# Altium integrated library Circuit_protection.IntLib: 54 symbols
Pins are listed as number, name and electrical type; pins without a type are passive.

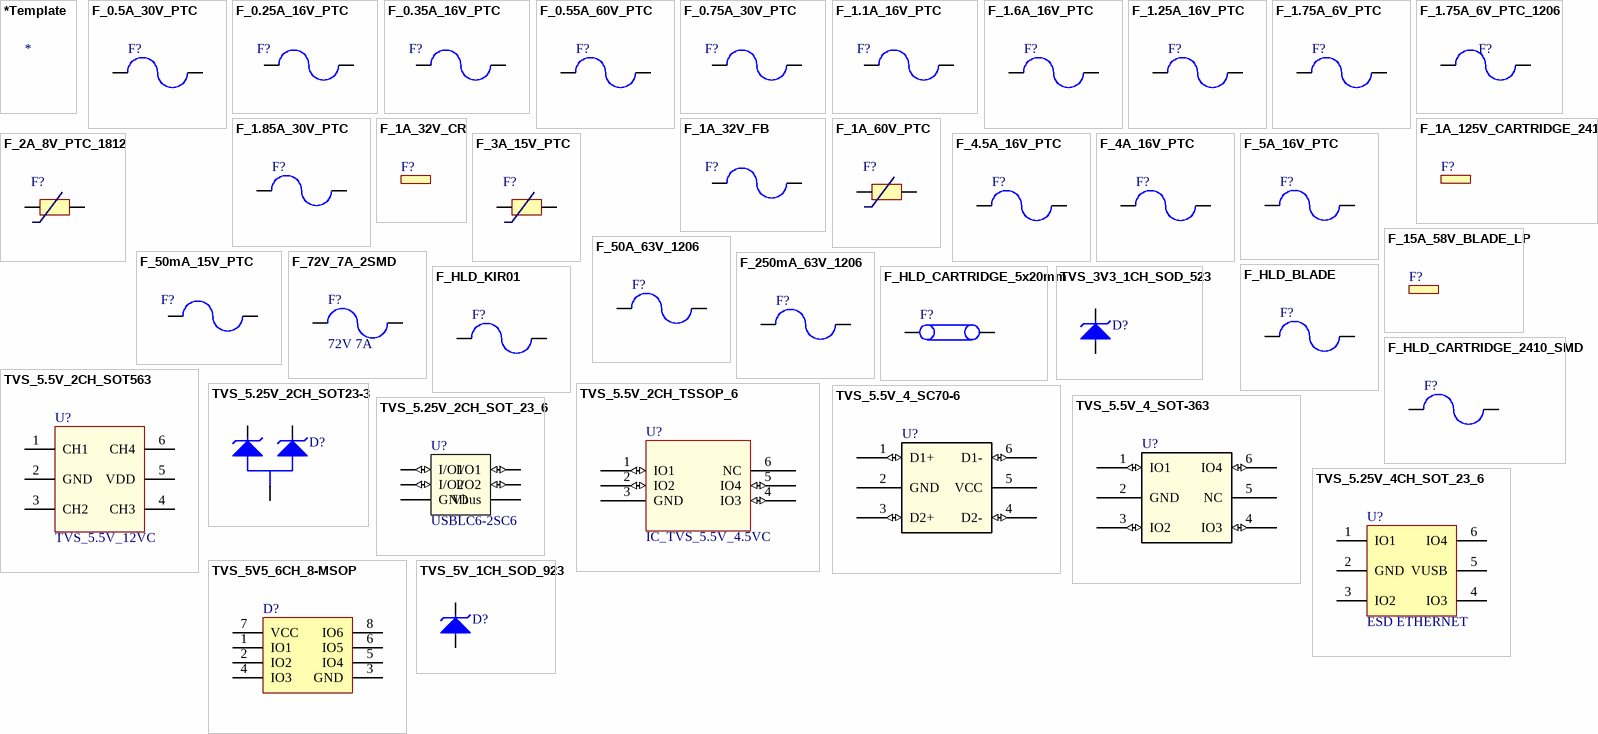
[diagram p0: symbols *Template to TVS_5V_1CH_SOD_923]

## *Template
designator *
Reel Sotck: N/A; Last modified by: J.Jaramillo; Last modified date: 20240309

## F_0.5A_30V_PTC
designator F?, comment 30V 0.5A  (value not drawn)
PTC RESET FUSE 30V 500MA 1812; Manufacturer: PTTC(Polytronics Tech); Manufacturer Part Number: SMD1812P050TF/30; Supplier 1: LCSC; Supplier Part Number 1: C492015; Reel Sotck: N/A; Last modified by: J.Jaramillo; Last modified date: 20240309; ComponentLink1Description: LCSC; ComponentLink1URL: https://lcsc.com/product-detail/PTC-Resettable-Fuses_PTTC-Polytronics-Tech-SMD1812P050TF-30_C492015.html
footprint 1812 (4532 Metric / 20190321 / N-A.Potosi)
pins: 1, 2

## F_0.25A_16V_PTC
designator F?, comment ITrip=500mA, IHold=25mA  (value not drawn)
PTC RESET FUSE 16V 250MA 1206; Manufacturer: Bel Fuse Inc.; Manufacturer Part Number: 0ZCJ0025FF2E; Supplier 1: Digi-Key; Supplier Part Number 1: 507-1798-1-ND; Reel Sotck: N/A; Last modified by: J.Jaramillo; Last modified date: 20240309; ComponentLink1Description: Digi-Key; ComponentLink1URL: https://www.digikey.com/en/products/detail/bel-fuse-inc/0ZCJ0025FF2E/4156130; ComponentLink2Description: Datasheet; ComponentLink2URL: https://www.belfuse.com/resources/datasheets/circuitprotection/ds-cp-0zcj-series.pdf
footprint 1210 (3225 Metric / 20190221 / C-A.Serna.A)
pins: 1, 2

## F_0.35A_16V_PTC
designator F?, comment IHold= 350mA, ITrip+ 750mA  (value not drawn)
PTC RESET FUSE 16V 350MA 1206; Manufacturer: Bel Fuse Inc.; Manufacturer Part Number: 0ZCJ0035FF2G; Supplier 1: Digi-Key; Supplier Part Number 1: 507-1800-1-ND; Reel Sotck: N/A; Last modified by: J.Jaramillo; Last modified date: 20240309; ComponentLink1Description: Digi-Key; ComponentLink1URL: https://www.digikey.com/en/products/detail/bel-fuse-inc/0ZCJ0035FF2G/4156131?s=N4IgTCBcDaIAwC0DCApOcDMBWAYjsA4iALoC%2BQA; ComponentLink2Description: Datasheet; ComponentLink2URL: https://www.belfuse.com/resources/datasheets/circuitprotection/ds-cp-0zcj-series.pdf
footprint 1206 (/20210216/J-E.Pachon)
pins: 1, 2

## F_0.55A_60V_PTC
designator F?, comment 60V 0.55A  (value not drawn)
PTC RESET FUSE 60V 550MA 2018; Manufacturer: Bourns Inc.; Manufacturer Part Number: MF-SMDF050-2; Supplier 1: Digi-Key; Supplier Part Number 1: MF-SMDF050-2CT-ND; Reel Sotck: N/A; Last modified by: J.Jaramillo; Last modified date: 20240309; ComponentLink1Description: Digi-Key; ComponentLink1URL: https://www.digikey.com/en/products/detail/bourns-inc/MF-SMDF050-2/662828?s=N4IgTCBcDaILIDEC0BlOARBAGArFkAugL5A
footprint 2018 (5045 metric/ 20210211 / C-D Viveros)
pins: 1, 2

## F_0.75A_30V_PTC
designator F?, comment Itrip=1.3A, IHold=750mA  (value not drawn)
PTC RESET FUSE 30V 750MA RADIAL; Manufacturer: Bel Fuse Inc.; Manufacturer Part Number: 0ZRG0075FF1E; Supplier 1: Digi-Key; Supplier Part Number 1: 507-2375-ND; Reel Sotck: N/A; Last modified by: J.Jaramillo; Last modified date: 20240309; ComponentLink1Description: Digi-Key; ComponentLink1URL: https://www.digikey.com/en/products/detail/bel-fuse-inc/0ZRG0075FF1E/9468224; ComponentLink2Description: Datasheet; ComponentLink2URL: https://media.digikey.com/pdf/Data%20Sheets/Bel%20Fuse%20PDFs/0ZRG_Series.pdf
footprint FUSE_RADIAL_6.90mm x 3.00mm x 11.40mm (/20230605/ J.Jaramillo)
pins: 1, 2

## F_1.1A_16V_PTC
designator F?, comment IHold=1.1A, ITrip=1.95A  (value not drawn)
PTC RESET FUSE 16V 1.1A 1812; Manufacturer: Littelfuse Inc.; Manufacturer Part Number: 1812L110/16DR; Supplier 1: Digi-Key; Supplier Part Number 1: F3485CT-ND; Reel Sotck: N/A; Last modified by: J.Jaramillo; Last modified date: 20240309; ComponentLink1Description: Digi-key; ComponentLink1URL: https://www.digikey.com/en/products/detail/littelfuse-inc/1812L110-16DR/2023965; ComponentLink2Description: Datasheet; ComponentLink2URL: https://www.littelfuse.com/~/media/electronics/datasheets/resettable_ptcs/littelfuse_ptc_1812l_datasheet.pdf.pdf
footprint 1812 - 1 (4532 Metric / 20230606 / J.Jaramillo)
pins: 1, 2

## F_1.6A_16V_PTC
designator F?, comment 16V 1.6A  (value not drawn)
PTC RESET FUSE 16V 1.6A 1812; Manufacturer: Bel Fuse Inc.; Manufacturer Part Number: 0ZCG0160BF2C; Supplier 1: Digi-Key; Supplier Part Number 1: 507-1776-1-ND; Reel Sotck: N/A; Last modified by: J.Jaramillo; Last modified date: 20240309; ComponentLink1Description: Digi-Key; ComponentLink1URL: https://www.digikey.com/product-detail/en/bel-fuse-inc/0ZCG0160BF2C/507-1776-1-ND/4156320
footprint 1812 (4532 Metric / 20190321 / N-A.Potosi)
pins: 1, 2

## F_1.25A_16V_PTC
designator F?, comment 16V 1.25A  (value not drawn)
PTC RESET FUSE 16V 1.25A 1812; Manufacturer: Bel Fuse Inc.; Manufacturer Part Number: 0ZCG0125AF2B; Supplier 1: Digi-Key; Supplier Part Number 1: 507-1770-1-ND; Reel Sotck: N/A; Last modified by: J.Jaramillo; Last modified date: 20240309; ComponentLink1Description: Digi-Key; ComponentLink1URL: https://www.digikey.com/product-detail/en/bel-fuse-inc/0ZCG0125AF2B/507-1770-1-ND/4156162
footprint 1812 (4532 Metric / 20190321 / N-A.Potosi)
pins: 1, 2

## F_1.75A_6V_PTC
designator F?, comment 6V 1.75A  (value not drawn)
PTC RESET FUSE 6V 1.75A 1210; Manufacturer: Bel Fuse Inc.; Manufacturer Part Number: 0ZCH0175FF2E; Supplier 1: Digi-Key; Supplier Part Number 1: 507-1791-1-ND; Reel Sotck: N/A; Last modified by: J.Jaramillo; Last modified date: 20240309; ComponentLink1Description: Digi-Key; ComponentLink1URL: https://www.digikey.com/product-detail/en/bel-fuse-inc/0ZCH0175FF2E/507-1791-1-ND/4156217
footprint 1210 (3225 Metric / 20190221 / C-A.Serna.A)
pins: 1, 2

## F_1.75A_6V_PTC_1206
designator F?, comment Ihold= 1.75A, Itrip= 3.5A  (value not drawn)
POLYMERIC PTC RESETTABLE FUSE SU; Manufacturer: YAGEO; Manufacturer Part Number: SMD1206B175TF; Supplier 1: Digi-Key; Supplier Part Number 1: 13-SMD1206B175TFCT-ND; Reel Sotck: N/A; Last modified by: J.Jaramillo; Last modified date: 20240309; ComponentLink1Description: DIgi-Key; ComponentLink1URL: https://www.digikey.com/en/products/detail/yageo/SMD1206B175TF/15212948
footprint 1206 (/20210216/J-E.Pachon)
pins: 1, 2

## F_1.85A_30V_PTC
designator F?, comment 30V 1.85A  (value not drawn)
PTC RESET FUSE 30V 1.85A RADIAL; Manufacturer: Bel Fuse Inc.; Manufacturer Part Number: 0ZRB0185FF1E; Reel Sotck: N/A; Last modified by: J.Jaramillo; Last modified date: 20240309; Supplier 1: Digi-Key; Supplier Part Number 1: 507-1319-ND; ComponentLink1Description: Digi-key; ComponentLink1URL: https://www.digikey.com/en/products/detail/bel-fuse-inc/0ZRB0185FF1E/1560174
footprint FUSE_RADIAL_15.7X10.2X3mm (/ 20201230/ V-A.Patino)
pins: 1, 2

## F_1A_32V_CR
designator F?, comment 32V 1A  (value not drawn)  (mechanical)
FUSE AUTO 1A 32VDC BLADE; Manufacturer: Dongguan Ewin Electronic Technology; Manufacturer Part Number: AB19001; Reel Sotck: N/A; Last modified by: J.Jaramillo; Last modified date: 20240309; Supplier 1: Poshton; Supplier Part Number 1: AB19001; ComponentLink1Description: Datasheet; ComponentLink1URL: CMP000372_AB19001.pdf

## F_1A_32V_FB
designator F?, comment 32V 1A Fast Blow  (value not drawn)
FUSE BOARD MOUNT 1A 32VDC 0603; Manufacturer: Vishay Beyschlag/Draloric/BC Components; Manufacturer Part Number: MFU0603FF01000P500; Supplier 1: Digi-Key; Supplier Part Number 1: 749-1742-1-ND; Reel Sotck: N/A; Last modified by: J.Jaramillo; Last modified date: 20240309; ComponentLink1Description: Digi-Key; ComponentLink1URL: https://www.digikey.com/en/products/detail/vishay-beyschlag-draloric-bc-components/MFU0603FF01000P500/1202604
footprint 0603 (/20230608/J-A.Sepulveda)
pins: 1, 2

## F_1A_60V_PTC
designator F?, comment 60V 1A  (value not drawn)
PTC RESET FUSE 60V 1A 2920; Manufacturer: Bel Fuse Inc.; Manufacturer Part Number: 0ZCF0100AF2A; Reel Sotck: N/A; Last modified by: J.Jaramillo; Last modified date: 20240309; ComponentLink1Description: Digi-key; ComponentLink1URL: https://www.digikey.com/products/en?keywords=507-2070-1-ND; Supplier 1: Digi-Key; Supplier Part Number 1: 507-2070-1-ND
footprint 2920 (7531 metric/ 20190327/ V-A.Patino)
pins: 1, 2

## F_1A_125V_CARTRIDGE_2410
designator F?, comment 125V 10A  (value not drawn)  (mechanical)
FUSE BRD MNT 1A 125VAC/VDC 2SMD; Manufacturer: Littelfuse Inc.; Manufacturer Part Number: 0448001.MR; Supplier 1: Digi-Key; Supplier Part Number 1: F1637CT-ND; Reel Sotck: N/A; Last modified by: J.Jaramillo; Last modified date: 20240309; ComponentLink1Description: Digi-Key; ComponentLink1URL: https://www.digikey.com/en/products/detail/littelfuse-inc/0448001-MR/2620176

## F_2A_8V_PTC_1812
designator F?, comment MINISMDC200F-2  (value not drawn)
PTC RESET FUSE 8V 2A 1812; Manufacturer: Littelfuse Inc.; Manufacturer Part Number: MINISMDC200F-2; Supplier 1: Digi-Key; Supplier Part Number 1: MINISMDC200F-2CT-ND; Reel Sotck: N/A; Last modified by: J.Jaramillo; Last modified date: 20240309; ComponentLink1Description: Digi-Key; ComponentLink1URL: https://www.digikey.com/en/products/detail/littelfuse-inc/MINISMDC200F-2/1045898
footprint 1812 (4532 Metric / 20190321 / N-A.Potosi)
pins: 1, 2

## F_3A_15V_PTC
designator F?, comment 15V 3A  (value not drawn)
PTC RESET FUSE 15V 3A 2920; Manufacturer: Bel Fuse Inc.; Manufacturer Part Number: 0ZCF0300AF2C; Reel Sotck: N/A; Last modified by: J.Jaramillo; Last modified date: 20240309; Supplier 1: Digi-Key; Supplier Part Number 1: 507-1753-1-ND; ComponentLink1Description: Digi-key; ComponentLink1URL: https://www.digikey.com/product-detail/en/bel-fuse-inc/0ZCF0300AF2C/507-1753-1-ND/4156191
footprint 2920 (7531 metric/ 20190327/ V-A.Patino)
pins: 1, 2

## F_4.5A_16V_PTC
designator F?, comment 16V 4.5A  (value not drawn)
PTC RESET FUSE 16V 4.5A RADIAL; Manufacturer: Littelfuse Inc.; Manufacturer Part Number: RHEF450; Reel Sotck: N/A; Last modified by: J.Jaramillo; Last modified date: 20240309; Supplier 1: Digi-Key; Supplier Part Number 1: RHEF450HF-ND; ComponentLink1Description: Digi-key; ComponentLink1URL: https://www.digikey.com/product-detail/en/littelfuse-inc/RHEF450/RHEF450HF-ND/5029804
footprint FUSE_RADIAL_15.60X10.4X2.50mm (/ 20191022 / C-D Viveros)
pins: 1, 2

## F_4A_16V_PTC
designator F?, comment 16V 4A  (value not drawn)
PTC RESET FUSE 16V 4A RADIAL; Manufacturer: Littelfuse Inc.; Manufacturer Part Number: RGEF400; Reel Sotck: N/A; Last modified by: J.Jaramillo; Last modified date: 20240309; Supplier 1: Digi-Key; Supplier Part Number 1: RGEF400HF-ND; ComponentLink1Description: Digi-key; ComponentLink1URL: https://www.digikey.com/product-detail/en/littelfuse-inc/RGEF400/RGEF400HF-ND/5130245
footprint FUSE_RADIAL_12.80X8.40X2.50mm (/ 20190926 / C-D Viveros)
pins: 1, 2

## F_5A_16V_PTC
designator F?, comment 16V 5A  (value not drawn)
PTC RESET FUSE 16V 5A RADIAL; Manufacturer: Littelfuse Inc.; Manufacturer Part Number: RGEF500; Reel Sotck: N/A; Last modified by: J.Jaramillo; Last modified date: 20240309; Supplier 1: Digi-Key; Supplier Part Number 1: RGEF500HF-ND; ComponentLink1Description: Digi-key; ComponentLink1URL: https://www.digikey.com/product-detail/en/littelfuse-inc/RGEF500/RGEF500HF-ND/5029781
footprint FUSE_RADIAL_14.20X10.00X2.50mm (/ 20190926 / C-D Viveros)
pins: 1, 2

## F_15A_58V_BLADE_LP
designator F?, comment 58V 15A  (value not drawn)  (mechanical)
FUSE AUTO 15A 58VDC BLADE MINI; Manufacturer: Littelfuse Inc.; Manufacturer Part Number: 0891015.NXS; Reel Sotck: N/A; Last modified by: J.Jaramillo; Last modified date: 20240309; Supplier 1: Digi-Key; Supplier Part Number 1: F4990-ND; ComponentLink1Description: Digi-Key; ComponentLink1URL: https://www.digikey.com/product-detail/en/littelfuse-inc/0891015-NXS/F4990-ND/2046668

## F_50A_63V_1206
designator F?, comment 63V 50A  (value not drawn)
FUSE BOARD MNT 2A 63VAC/VDC 1206; Manufacturer: Littelfuse Inc.; Manufacturer Part Number: 0437002.WR; Supplier 1: Digikey; Supplier Part Number 1: F2885CT-ND; Reel Sotck: N/A; Last modified by: J.Jaramillo; Last modified date: 20240309; ComponentLink1Description: Digikey; ComponentLink1URL: https://www.digikey.com/en/products/detail/littelfuse-inc/0437002-WR/1905875
footprint 1206 (/20210216/J-E.Pachon)
pins: 1, 2

## F_50mA_15V_PTC
designator F?, comment IHold=50mA, ITrip=1.50mA  (value not drawn)
PTC RESET FUSE 15V 50MA 0603; Manufacturer: Bel Fuse Inc.; Manufacturer Part Number: 0ZCM0005FF2G; Supplier 1: Digi-Key; Supplier Part Number 1: 507-1816-1-ND; Reel Sotck: N/A; Last modified by: J.Jaramillo; Last modified date: 20240309; ComponentLink1Description: Digi-Key; ComponentLink1URL: https://www.digikey.com/en/products/detail/bel-fuse-inc/0ZCM0005FF2G/4156144
footprint 0603 (/20230608/J-A.Sepulveda)
pins: 1, 2

## F_72V_7A_2SMD
designator F?, comment 72V 7A
FUSE BRD MNT 7A 72VAC 60VDC 2SMD; Manufacturer: Littelfuse Inc.; Manufacturer Part Number: 0154007.DRT; Supplier 1: Digi-key; Supplier Part Number 1: F4164CT-ND; Reel Sotck: N/A; Last modified by: J.Jaramillo; Last modified date: 20240309; ComponentLink1Description: Digi-key; ComponentLink1URL: https://www.digikey.com/en/products/detail/littelfuse-inc/0154007-DRT/2520461
footprint FUSE_BRD_MNT_0.383X0.198X0.150MM (/20220518/F-A.Ospina)
pins: 1, 2

## F_250mA_63V_1206
designator F?, comment 250mA 63V  (value not drawn)
FUSE BOARD MNT 250MA 32VAC 63VDC; Manufacturer: Eaton - Electronics Division; Manufacturer Part Number: TR/3216FF250-R; Supplier 1: Digi-Key; Supplier Part Number 1: 283-2537-1-ND; Reel Sotck: N/A; Last modified by: J.Jaramillo; Last modified date: 20240309; ComponentLink1Description: Digi-key; ComponentLink1URL: https://www.digikey.com/en/products/detail/eaton-electronics-division/TR-3216FF250-R/724103?s=N4IgTCBcDaIMxgIwDYBiqwFYAMBaASiALoC%2BQA
footprint 1206 (/20210216/J-E.Pachon)
pins: 1, 2

## F_HLD_BLADE
designator F?, comment 500V 20A  (value not drawn)
FUSE HOLDER BLADE 20A SMD, ATC, ATO, Miniature (Low Profile) (ATT).; Manufacturer: Keystone Electronics; Manufacturer Part Number: 3587-10TR; Supplier 1: Digi-Key; Supplier Part Number 1: 36-3587-10CT-ND; Reel Sotck: N/A; Last modified by: J.Jaramillo; Last modified date: 20240309; ComponentLink1Description: manufacturer; ComponentLink1URL: https://www.digikey.com/product-detail/en/keystone-electronics/3587-10TR/36-3587-10CT-ND/6149530
footprint Fuse_HLD_BLADE (/20200522/J-P.Vargas.A)
pins: 1, 2

## F_HLD_CARTRIDGE_5x20mm
designator F?, comment 500V 10A  (value not drawn)
FUSE BLOK CARTRIDGE 500V 10A PCB; Manufacturer: Schurter Inc.; Manufacturer Part Number: 0031.8201; Supplier 1: Digi-Key; Supplier Part Number 1: 486-1258-ND; Reel Sotck: N/A; Last modified by: J.Jaramillo; Last modified date: 20240309; ComponentLink1Description: Digi-Key; ComponentLink1URL: https://www.digikey.com/en/products/detail/schurter-inc/0031-8201/669925?s=N4IgTCBcDaIAxwMwEYB0AOMdkgLoF8g
footprint FUSE_HLD_CARTRIDGE_5x20mm (/20201016/C-A.Serna.A)
pins: 1, 2

## F_HLD_CARTRIDGE_2410_SMD
designator F?, comment 125V 10A  (value not drawn)
FUSE BLOK CARTRIDGE 125V 10A SMD; Manufacturer: Littelfuse Inc.; Manufacturer Part Number: 01550900M; Supplier 1: Digi-Key; Supplier Part Number 1: F1889-ND; Reel Sotck: N/A; Last modified by: J.Jaramillo; Last modified date: 20240309; ComponentLink1Description: Digi-Key; ComponentLink1URL: https://www.digikey.com/en/products/detail/littelfuse-inc/01550900M/2519878
footprint FUSE_HLD_CARTRIDGE_2410_SMD (/20201105/C-A.Serna.A)
pins: 1, 2

## F_HLD_KIR01
designator F?, comment 60V 30A  (value not drawn)
car fuse holder; Manufacturer: Dongguan Ewin Electronic Technology; Manufacturer Part Number: 301P; Supplier 1: Poshton; Supplier Part Number 1: 301P; Reel Sotck: N/A; Last modified by: J.Jaramillo; Last modified date: 20240309; ComponentLink1Description: Manufacturer; ComponentLink1URL: http://www.yyfuse.com/products/autoholder/301P.html; ComponentLink2Description: Datasheet; ComponentLink2URL: CMP000488_301.pdf
footprint Fuse_HLD_KIR01 (/20200131/V-A.Patino)
pins: 1, 2

## TVS_3V3_1CH_SOD_523
designator D?, comment 14.1V 11.2A  (value not drawn)
TVS DIODE 3.3VWM 14.1VC SOD523; Manufacturer: ON Semiconductor; Manufacturer Part Number: SZESD5Z3.3T1G; Reel Sotck: N/A; Last modified by: J.Jaramillo; Last modified date: 20240309; ComponentLink1Description: Digi-Key; ComponentLink1URL: https://www.digikey.com/en/products/detail/on-semiconductor/SZESD5Z3-3T1G/5258196?s=N4IgTCBcDaIMoC0CicAiBWBBmAdFgKgIwDiA8nAML4C0AcqiALoC%2BQA; Supplier 1: Digi-Key; Supplier Part Number 1: SZESD5Z3.3T1GOSCT-ND
footprint SOD_523 (SC-79 / 20190327 / V-A.Patino)
pins: 1, 2

## TVS_5.5V_2CH_SOT563
designator U?, comment TVS_5.5V_12VC
TVS DIODE 5.5V 12V SOT563; Manufacturer: Texas Instruments; Manufacturer Part Number: D5V0F4U6V-7; Supplier Part Number 1: D5V0F4U6V-7DICT-ND; Last modified date: 20240309; Last modified by: J.Jaramillo; Supplier 1: Digi-Key; Reel Sotck: N/A; ComponentLink1Description: Digi-Key; ComponentLink1URL: https://www.digikey.com/products/en?keywords=D5V0F4U6V-7DICT-ND
footprint SOT_563_N (SOT-666 / 20200721 / C-D Viveros)
pins: 1 CH1, 2 GND, 3 CH2, 4 CH3, 5 VDD, 6 CH4

## TVS_5.5V_2CH_TSSOP_6
designator U?, comment IC_TVS_5.5V_4.5VC
TVS DIODE 5.5VWM 14.5VC SC70-6; Manufacturer: Texas Instruments; Manufacturer Part Number: TPD4E1B06DCKR; Supplier Part Number 1: 296-39346-1-ND; Last modified date: 20240309; Last modified by: J.Jaramillo; Supplier 1: Digi-Key; Reel Sotck: N/A; ComponentLink1Description: Digi-Key; ComponentLink1URL: https://www.digikey.com/products/en?keywords=296-39346-1-ND
footprint TSSOP_6 (SC-88, SOT-363, SC-70-6 / 20190221 / C-A.Serna.A)
pins: 1 IO1 (io), 2 IO2 (io), 3 GND (power), 4 IO3 (io), 5 IO4 (io), 6 NC

## TVS_5.5V_4_SC70-6
designator U?, comment 5.5V 3A  (value not drawn)
TVS DIODE 5.5VWM SC70-6; Manufacturer: Texas Instruments; Manufacturer Part Number: TPD4S009DCKRG4; Supplier 1: Digi-Key; Supplier Part Number 1: TPD4S009DCKRG4-ND; Reel Sotck: N/A; Last modified by: J.Jaramillo; Last modified date: 20240309; ComponentLink1Description: Digi-Key; ComponentLink1URL: https://www.digikey.com/en/products/detail/texas-instruments/tpd4s009dckrg4/2047855
footprint SOT_363 (6_TSSOP, SC-88 / E.Naranjo / 20220214)
pins: 1 D1+ (io), 2 GND (power), 3 D2+ (io), 4 D2- (io), 5 VCC, 6 D1- (io)

## TVS_5.5V_4_SOT-363
designator U?, comment 5.5V 3A  (value not drawn)
TVS DIODE 5.5VWM 14.5VC SC70-6; Manufacturer: Texas Instruments; Manufacturer Part Number: TPD4E1B06DCKR; Supplier 1: Digi-Key; Supplier Part Number 1: 296-39346-1-ND; Reel Sotck: N/A; Last modified by: J.Jaramillo; Last modified date: 20240309; ComponentLink1Description: Digi-Key; ComponentLink1URL: https://www.digikey.com/en/products/detail/texas-instruments/TPD4E1B06DCKR/3871271?s=N4IgTCBcDa4JwDYC0BmOKAsyCMSByAIiALoC%2BQA
footprint SOT_363 (6_TSSOP, SC-88 / E.Naranjo / 20220214)
pins: 1 IO1 (io), 2 GND (power), 3 IO2 (io), 4 IO3 (io), 5 NC, 6 IO4 (io)

## TVS_5.25V_2CH_SOT23-3
designator D?, comment ESDA6V1L  (value not drawn)
TVS DIODE 5.25VWM SOT23-3; Manufacturer: STMicroelectronics; Manufacturer Part Number: ESDA6V1L; Supplier 1: Digi-Key; Supplier Part Number 1: 497-2930-1-ND; Reel Sotck: N/A; Last modified by: J.Jaramillo; Last modified date: 20240309; ComponentLink1Description: Digi-Key; ComponentLink1URL: https://www.digikey.com/en/products/detail/stmicroelectronics/ESDA6V1L/634694
footprint SOT_23_3 (TO-236-3, SC-59/ 20201021 / C-A.Serna.A)
pins: 1, 2, 3

## TVS_5.25V_2CH_SOT_23_6
designator U?, comment USBLC6-2SC6
TVS DIODE 5.25VWM 17VC SOT23-6; Manufacturer: STMicroelectronics; Last modified date: 20240309; Last modified by: J.Jaramillo; Reel Sotck: N/A; ComponentLink1Description: Digi-Key; ComponentLink1URL: https://www.digikey.com/products/en?keywords=497-5235-1-ND; Supplier 1: Digi-Key; Manufacturer Part Number: USBLC6-2SC6; Supplier Part Number 1: 497-5235-1-ND
footprint SOT_23_6 (/ 20190225 / C-A.Serna.A)
pins: 1 I/O1 (io), 2 GND (power), 3 I/O2 (io), 4 I/O2 (io), 5 Vbus (power), 6 I/O1 (io)

## TVS_5.25V_4CH_SOT_23_6
designator U?, comment ESD ETHERNET
TVS DIODE 5.25V 17V SOT23-6; Manufacturer: STMicroelectronics; Manufacturer Part Number: USBLC6-4SC6; Supplier 1: Digi-Key; Supplier Part Number 1: 497-4492-1-ND; Reel Sotck: N/A; Last modified by: J.Jaramillo; Last modified date: 20240309; ComponentLink1Description: Digi-Key; ComponentLink1URL: https://www.digikey.com/product-detail/en/stmicroelectronics/USBLC6-4SC6/497-4492-1-ND/725667
footprint SOT_23_6 (/ 20190225 / C-A.Serna.A)
pins: 1 IO1, 2 GND, 3 IO2, 4 IO3, 5 VUSB, 6 IO4

## TVS_5V5_6CH_8-MSOP
designator D?, comment PACDN006MR  (value not drawn)
TVS DIODE 5.5VWM 8-MSOP; Manufacturer: ON Semiconductor; Manufacturer Part Number: PACDN006MR; Supplier 1: Digi-Key; Supplier Part Number 1: PACDN006MROSCT-ND; Reel Sotck: N/A; Last modified by: J.Jaramillo; Last modified date: 20240309; ComponentLink1Description: Digi-Key; ComponentLink1URL: https://www.digikey.com/en/products/detail/on-semiconductor/PACDN006MR/2401434
footprint 8-MSOP_3X3MM (/20210630/J-E.Pachon)
pins: 1 IO1 "ESD-protected channel", 2 IO2 "Not internally connected", 3 GND "ESD-protected channel", 4 IO3 (power) "Ground", 5 IO4 "ESD-protected channel", 6 IO5 "ESD-protected channel", 7 VCC "ESD-protected channel", 8 IO6 "Not internally connected"

## TVS_5V_1CH_SOD_923
designator D?, comment 12.3V 8.7A  (value not drawn)
TVS DIODE 5V 12.3V SOD923; Manufacturer: ON Semiconductor; Manufacturer Part Number: ESD9X5.0ST5G; Supplier 1: Digi-Key; Supplier Part Number 1: ESD9X5.0ST5GOSCT-ND; Reel Sotck: N/A; Last modified by: J.Jaramillo; Last modified date: 20240309; ComponentLink1Description: Digi-Key; ComponentLink1URL: https://www.digikey.com/product-detail/en/on-semiconductor/ESD9X5.0ST5G/ESD9X5.0ST5GOSCT-ND/2120624
footprint SOD_923 (/ 20190221 / C-A.Serna.A)
pins: 1, 2

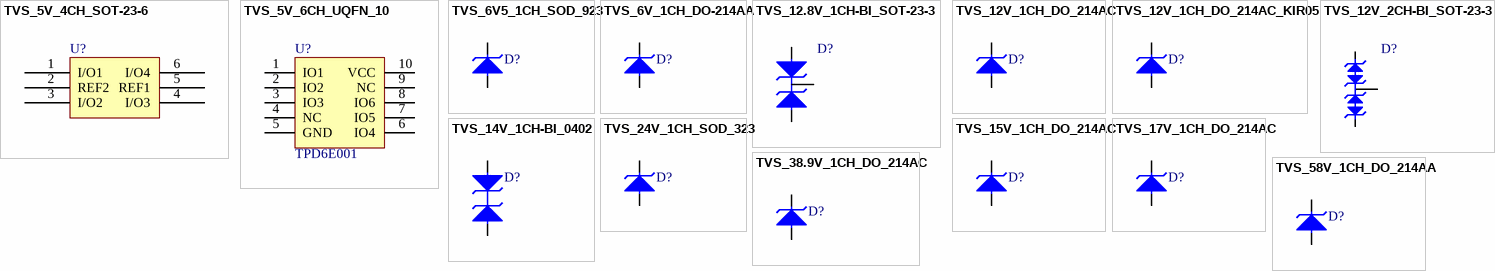
[diagram p1: symbols TVS_5V_4CH_SOT-23-6 to TVS_58V_1CH_DO_214AA]

## TVS_5V_4CH_SOT-23-6
designator U?, comment DALC208SC6  (value not drawn)
TVS DIODE 5VWM SOT23-6; Manufacturer: STMicroelectronics; Manufacturer Part Number: DALC208SC6; Supplier 1: Digi-Key; Supplier Part Number 1: 497-2525-1-ND; Reel Sotck: N/A; Last modified by: J.Jaramillo; Last modified date: 20240309; ComponentLink1Description: Digi-Key; ComponentLink1URL: https://www.digikey.com/en/products/detail/stmicroelectronics/DALC208SC6/603550
footprint SOT_23_6 (/ 20190225 / C-A.Serna.A)
pins: 1 I/O1, 2 REF2, 3 I/O2, 4 I/O3, 5 REF1, 6 I/O4

## TVS_5V_6CH_UQFN_10
designator U?, comment TPD6E001
TVS DIODE 5V 6 CHANNEL 10UQFN; Manufacturer: Texas Instruments; Manufacturer Part Number: TPD6E001RSER; Supplier 1: Digi-key; Supplier Part Number 1: 296-21888-1-ND; Last modified by: J.Jaramillo; Last modified date: 20240309; ComponentLink1Description: Digi-key; ComponentLink1URL: https://www.digikey.com/products/en?keywords=296-21888-1-ND; Reel Sotck: N/A
footprint UQFN_10_2.0x1.5mm (QFN, 10-Leads, Body 1.5x2mm, Pitch 0.5mm, TI Recommended)
pins: 1 IO1 "ESD-protected channel", 2 IO2 "ESD-protected channel", 3 IO3 "ESD-protected channel", 4 NC "Not internally connected", 5 GND (power) "Ground", 6 IO4 "ESD-protected channel", 7 IO5 "ESD-protected channel", 8 IO6 "ESD-protected channel", 9 NC "Not internally connected", 10 VCC (power) "Power-supply input. Bypass VCC to GND with a 0.1-uF ceramic capacitor."

## TVS_6V5_1CH_SOD_923
designator D?, comment 6.5V  (value not drawn)
TVS DIODE 6.5VWM SOD923; Manufacturer: Toshiba Semiconductor and Storage; Manufacturer Part Number: DF2S8.2FS,L3M; Supplier 1: Digi-Key; Supplier Part Number 1: DF2S8.2FSL3MCT-ND; Reel Sotck: N/A; Last modified by: J.Jaramillo; Last modified date: 20210707; ComponentLink1Description: Digi-Key; ComponentLink1URL: https://www.digikey.com/en/products/detail/toshiba-semiconductor-and-storage/DF2S8-2FS-L3M/6198760?s=N4IgTCBcDaICIDEwGUAcA6MDkBkDMAsgMIAqAtAHJwgC6AvkA
footprint SOD_923 (/ 20190221 / C-A.Serna.A)
pins: 1, 2

## TVS_6V_1CH_DO-214AA
designator D?, comment 10.3V 58.3A  (value not drawn)
TVS DIODE 6V 10.3V DO214AA; Manufacturer: Littelfuse Inc.; Manufacturer Part Number: SMBJ6.0A; Supplier 1: Digikey; Supplier Part Number 1: SMBJ6.0ALFCT-ND; Reel Sotck: N/A; Last modified by: J.Jaramillo; Last modified date: 20240309; ComponentLink1Description: Digikey; ComponentLink1URL: https://www.digikey.com/en/products/detail/littelfuse-inc/SMBJ6-0A/285954
footprint DO_214AA (SMB / 20190221 / C-A.Serna.A)
pins: 1, 2

## TVS_12.8V_1CH-BI_SOT-23-3
designator D?, comment 12.8V 10A  (value not drawn)
TVS DIODE 12.8V 21.2V SOT23-3; Manufacturer: Semtech Corporation; Manufacturer Part Number: SDC15.TCT; Supplier 1: Digi-Key; Supplier Part Number 1: SDC15CT-ND; Reel Sotck: N/A; Last modified by: J.Jaramillo; Last modified date: 20240309; ComponentLink1Description: Digi-Key; ComponentLink1URL: https://www.digikey.com/en/products/detail/semtech-corporation/SDC15-TCT/1000925?s=N4IgjCBcpg7AzABiqAxlAZgQwDYGcBTAGhAHsoBtcEAXRIAcAXKEASQDtGCBzAgJxABfEnHgRoIdJGz5iZSiACc8eADYATLQbNIIAMqM%2BAS3bchJALTi0mXIRLlIVVYmR0QTFuZAXNEqYYArnKOVIpaHjogQsIgflQAJkakCQR4tIJAA
footprint SOT_23_3 (TO-236-3, SC-59/ 20201021 / C-A.Serna.A)
pins: 1, 2, 3

## TVS_12V_1CH_DO_214AC
designator D?, comment 12V  20.1A  (value not drawn)
TVS DIODE 12V 19.9V DO214AC; Manufacturer: Wurth Electronics Inc.; Manufacturer Part Number: 824500121; Reel Sotck: N/A; Last modified by: J.Jaramillo; Last modified date: 20240309; ComponentLink1Description: Digi-Key; ComponentLink1URL: https://www.digikey.com/products/en?keywords=824500121; Supplier 1: Digi-Key; Supplier Part Number 1: 732-9984-1-ND
footprint DO_214AC (SMA / 20190221 / C-A.Serna.A)
pins: 1, 2

## TVS_12V_1CH_DO_214AC_KIR05
designator D?, comment TVS 12V  (value not drawn)
TVS DIODE 12V 25.3V SMA; Manufacturer: STMicroelectronics; Manufacturer Part Number: SMAJ12A-TR; Reel Sotck: N/A; Last modified by: J.Jaramillo; Last modified date: 20240309; ComponentLink1Description: Digi-Key; ComponentLink1URL: https://www.digikey.com/products/en?keywords=497-6503-1-ND; Supplier 1: Digi-Key; Supplier Part Number 1: 497-6503-1-ND
footprint DO_214AC (SMA / 20190221 / C-A.Serna.A)
pins: 1, 2

## TVS_12V_2CH-BI_SOT-23-3
designator D?, comment 12V 17A  (value not drawn)
TVS DIODE 12V/7V 26V/12V SOT23-3; Manufacturer: Semtech Corporation; Manufacturer Part Number: SM712.TCT; Supplier 1: Digi-Key; Supplier Part Number 1: SM712CT-ND; Reel Sotck: N/A; Last modified by: J.Jaramillo; Last modified date: 20240309; ComponentLink1Description: Digi-Key; ComponentLink1URL: https://www.digikey.com/en/products/detail/semtech-corporation/SM712-TCT/1000933?s=N4IgTCBcDaIMoFkDsBGMBhAKgWgHIBEQBdAXyA
footprint SOT_23_3 (TO-236-3, SC-59/ 20201021 / C-A.Serna.A)
pins: 1, 2, 3

## TVS_14V_1CH-BI_0402
designator D?, comment 14V 5A  (value not drawn)
TVS DIODE 5.5VWM 14VC 2X1SON; Manufacturer: Texas Instruments; Manufacturer Part Number: TPD1E10B06DPYR; Supplier 1: Digi-Key; Supplier Part Number 1: 296-30406-1-ND; Reel Sotck: N/A; Last modified by: J.Jaramillo; Last modified date: 20240309; ComponentLink1Description: Digi-Key; ComponentLink1URL: https://www.digikey.com/en/products/detail/texas-instruments/TPD1E10B06DPYR/3197744?s=N4IgTCBcDaICoAUAiBGAoigDAIUwNiQQE0AlEAXQF8g
footprint 0402 (1006 Metric, 2-X1SON / 20211220 / E.Naranjo)
pins: 1, 2

## TVS_15V_1CH_DO_214AC
designator D?, comment 15V 16.4A  (value not drawn)
TVS DIODE 15VWM 24.4VC SMA; Manufacturer: Littelfuse Inc.; Manufacturer Part Number: SMAJ15A; Reel Sotck: N/A; Last modified by: J.Jaramillo; Last modified date: 20220817; ComponentLink1Description: Digi-Key; ComponentLink1URL: https://www.digikey.com/en/products/detail/littelfuse-inc/SMAJ15A/762276?s=N4IgTCBcDaIMoFkCCApAjAViQGQGIGEAVAWgDkAREAXQF8g; Supplier 1: Digi-Key; Supplier Part Number 1: SMAJ15ALFCT-ND
footprint DO_214AC (SMA / 20190221 / C-A.Serna.A)
pins: 1, 2

## TVS_17V_1CH_DO_214AC
designator D?, comment 17V  (value not drawn)
TVS DIODE 17V 27.6V SMA; Manufacturer: Diodes Incorporated; Manufacturer Part Number: SMAJ17A-13-F; Supplier 1: Digi-Key; Supplier Part Number 1: SMAJ17A-FDICT-ND; Reel Sotck: N/A; Last modified by: J.Jaramillo; Last modified date: 20240309; ComponentLink1Description: Digi-Key; ComponentLink1URL: https://www.digikey.com/product-detail/en/diodes-incorporated/SMAJ17A-13-F/SMAJ17A-FDICT-ND/806582
footprint DO_214AC (SMA / 20190221 / C-A.Serna.A)
pins: 1, 2

## TVS_24V_1CH_SOD_323
designator D?, comment 42V 7A  (value not drawn)
TVS DIODE 24V 42V SOD323; Manufacturer: Littelfuse Inc.; Manufacturer Part Number: SD24-01FTG; Reel Sotck: N/A; Last modified by: J.Jaramillo; Last modified date: 20240309; ComponentLink1Description: Digi-Key; ComponentLink1URL: https://www.digikey.com/products/en?keywords=F6445CT-ND; Supplier 1: Digi-Key; Supplier Part Number 1: F6445CT-ND
footprint SOD_323 (SC-76/ 20190515/ V-A.Patino)
footprint SOD_323 (SC-76/ 20190515/ V-A.Patino)
pins: 1, 2

## TVS_38.9V_1CH_DO_214AC
designator D?, comment 38.9V  10.3A  (value not drawn)
TVS DIODE 24VWM 38.9VC SMA; Manufacturer: Bourns Inc.; Manufacturer Part Number: SMAJ24CA; Supplier 1: Digi-Key; Supplier Part Number 1: SMAJ24CABCT-ND; Reel Sotck: N/A; Last modified by: J.Jaramillo; Last modified date: 20220603; ComponentLink1Description: Digi-Key; ComponentLink1URL: https://www.digikey.com/en/products/detail/bourns-inc/SMAJ24CA/2254533
footprint DO_214AC (SMA / 20190221 / C-A.Serna.A)
pins: 1, 2

## TVS_58V_1CH_DO_214AA
designator D?, comment 58V  6.4A  (value not drawn)
TVS DIODE 58V 93.6V DO214AA; Manufacturer: ON Semiconductor; Manufacturer Part Number: SMBJ58CA; Supplier 1: Digi-Key; Supplier Part Number 1: SMBJ58CAFSCT-ND; Reel Sotck: N/A; Last modified by: J.Jaramillo; Last modified date: 20240309; ComponentLink1Description: Digi-Key; ComponentLink1URL: https://www.digikey.com/products/en?keywords=SMBJ58CAFSCT-ND
footprint DO_214AA (SMB / 20190221 / C-A.Serna.A)
pins: 1, 2